# EAGLE library part DS3231BREAKOUT (library RSC-16)
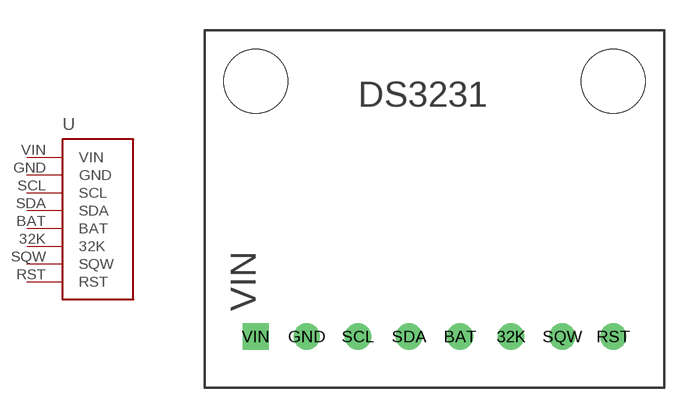
[diagram p6: symbol with the pads of DS3231BREAKOUT; footprint DS3231BREAKOUT]

Designator prefix -

## DS3231BREAKOUT  [DS3231BREAKOUT]
32K  32K
BAT  BAT
GND  GND
RST  RST
SCL  SCL
SDA  SDA
SQW  SQW
VIN  VIN

## Footprint DS3231BREAKOUT (pad centres in mm)
drill 0.8: 32K 15.24,2.54; BAT 12.7,2.54; GND 5.08,2.54; RST 20.32,2.54; SCL 7.62,2.54; SDA 10.16,2.54; SQW 17.78,2.54
drill 0.8 square: VIN 2.54,2.54
hole 3.2 at 2.54,15.24
hole 3.2 at 20.32,15.24